# Altium schematic symbol library Connecteurs_Wurth.SchLib: 33 symbols
Pins are listed as number, name and electrical type; pins without a type are passive.

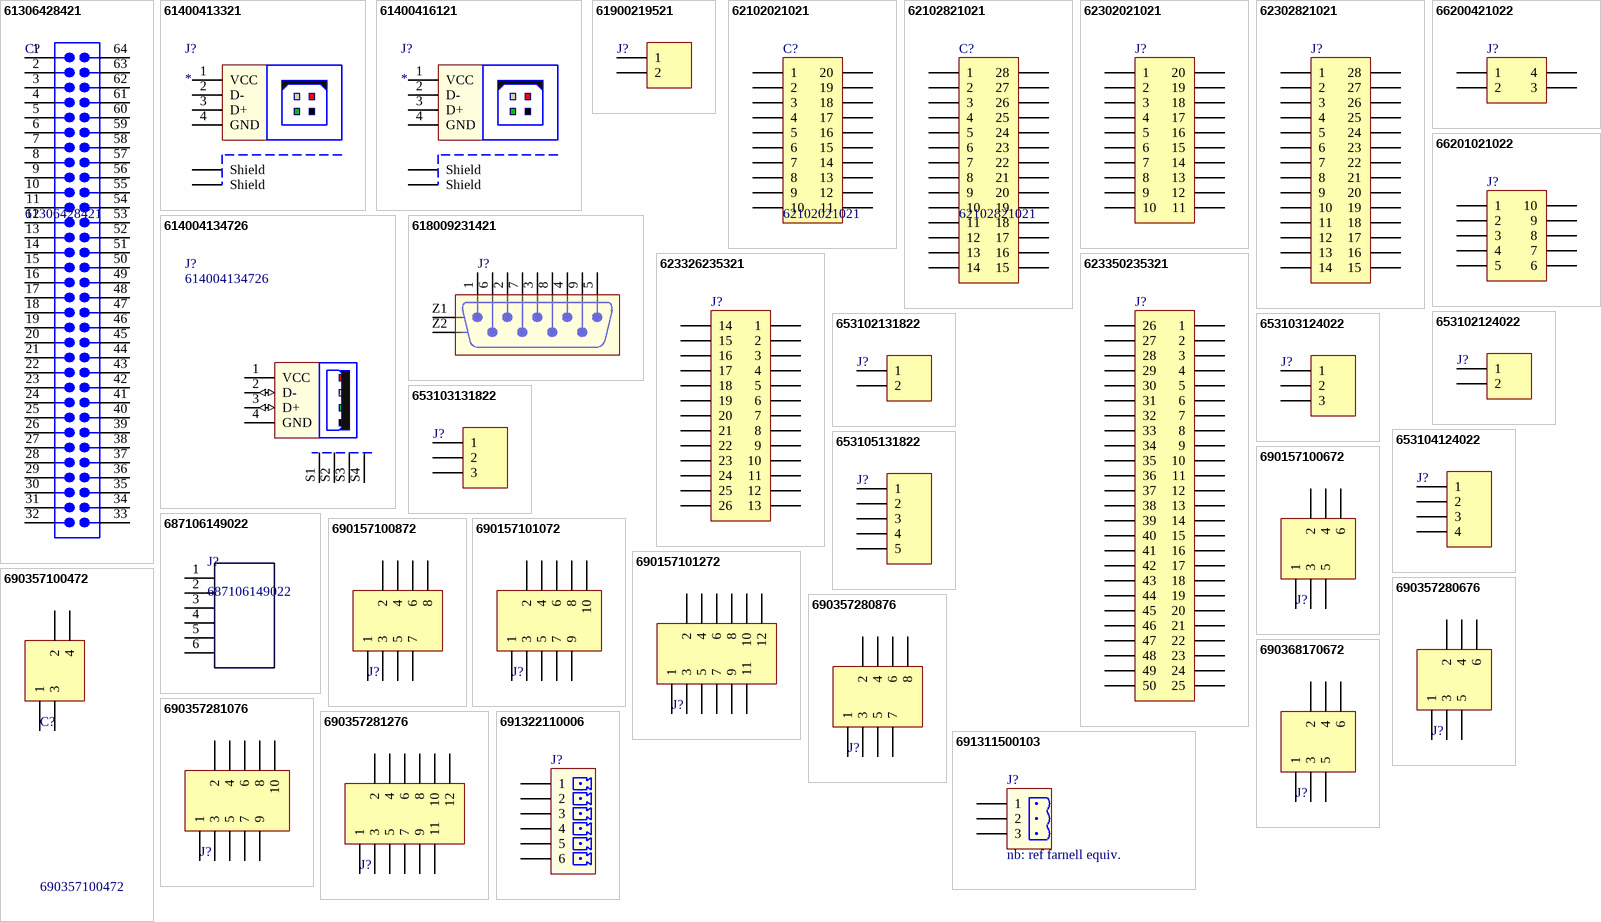
[diagram p0: symbols 61306428421 to 691322110006]

## 61306428421
designator C?
WR-PHD 64p 2.54mm Dual Board Stacker H=15.24mm; Manufacturer: Wurth Electronics Inc.; Value: 64; Manufacturer Part Number: 61306428421; ComponentLink1Description: Datasheet; ComponentLink1URL: http://katalog.we-online.de/em/datasheet/6130xx2xx21.pdf
footprint 61306428421 (64 pins, dual row, gold plating)
pins: 1, 2, 3, 4, 5, 6, 7, 8, 9, 10, 11, 12, 13, 14, 15, 16, 17, 18, 19, 20, 21, 22, 23, 24, 25, 26, 27, 28, 29, 30, 31, 32, 33, 34, 35, 36, 37, 38, 39, 40, 41, 42, 43, 44, 45, 46, 47, 48, 49, 50, 51, 52, 53, 54, 55, 56, 57, 58, 59, 60, 61, 62, 63, 64

## 61400413321
designator J?
WR-COM Vertical USB Type B; Manufacturer Part Number: 61400413321; Manufacturer: Wurth Electronics Inc.; Value: 4; ComponentLink1URL: http://katalog.we-online.de/em/datasheet/61400413321.pdf; Supplier 1: Farnell; Supplier Part Number 1: 1841165; ComponentLink1Description: Datasheet
footprint 61400413321 (F Str 04p Btype vertical)
pins: 1 VCC, 2 D-, 3 D+, 4 GND, S1 Shield, S2 Shield

## 61400416121
designator J?
WR-COM Horizontal USB Type B; Manufacturer Part Number: 61400416121; Manufacturer: Wurth Electronics Inc.; Value: 4; ComponentLink1URL: http://katalog.we-online.de/em/datasheet/61400416121.pdf; Supplier 1: Farnell; Supplier Part Number 1: 1642035; ComponentLink1Description: Datasheet
footprint 61400416121
pins: 1 VCC, 2 D-, 3 D+, 4 GND, S1 Shield, S2 Shield

## 61900219521
designator J?  (value not drawn)
WERI 2p horiz. Wire to board 2,54mm; Manufacturer: Wurth Electronics Inc.; Value: 2; Manufacturer Part Number: 61900219521; ComponentLink1Description: Datasheet; ComponentLink1URL: http://katalog.we-online.de/em/datasheet/6190xx19521.pdf
footprint 61900219521 (M RA 2p 1 row left)
pins: 1, 2

## 62102021021
designator C?
WR-PHD 20p 1.27 mm Dual SMT Pin Header; Manufacturer: Wurth Electronics Inc.; Value: 20; Manufacturer Part Number: 62102021021; ComponentLink1Description: Datasheet; ComponentLink1URL: http://katalog.we-online.de/em/datasheet/6210xx21021.pdf
footprint 62102021021 (20 pins, dual row, straight, gold plating)
pins: 1, 2, 3, 4, 5, 6, 7, 8, 9, 10, 11, 12, 13, 14, 15, 16, 17, 18, 19, 20

## 62102821021
designator C?
WR-PHD 28p 1.27 mm Dual SMT Pin Header; Manufacturer: Wurth Electronics Inc.; Value: 28; Manufacturer Part Number: 62102821021; ComponentLink1Description: Datasheet; ComponentLink1URL: http://katalog.we-online.de/em/datasheet/6210xx21021.pdf
footprint 62102821021 (28 pins, dual row, straight, gold plating)
pins: 1, 2, 3, 4, 5, 6, 7, 8, 9, 10, 11, 12, 13, 14, 15, 16, 17, 18, 19, 20, 21, 22, 23, 24, 25, 26, 27, 28

## 62302021021
designator J?  (value not drawn)
WR-PHD 20p 1.27 mm Dual SMT Socket Header H=4.50mm; Manufacturer: Wurth Electronics Inc.; Value: 20; ComponentLink1Description: Datasheet; ComponentLink1URL: http://katalog.we-online.de/em/datasheet/6230xx21021.pdf; Manufacturer Part Number: 62302021021
footprint 62302021021 (20 pins, dual row, straight, gold plating)
pins: 1, 2, 3, 4, 5, 6, 7, 8, 9, 10, 11, 12, 13, 14, 15, 16, 17, 18, 19, 20

## 62302821021
designator J?  (value not drawn)
WR-PHD 28p 1.27 mm Dual SMT Socket Header H=4.50mm; Manufacturer: Wurth Electronics Inc.; Value: 28; ComponentLink1Description: Datasheet; ComponentLink1URL: http://katalog.we-online.de/em/datasheet/6230xx21021.pdf; Manufacturer Part Number: 62302821021
footprint 62302821021 (28 pins, dual row, straight, gold plating)
pins: 1, 2, 3, 4, 5, 6, 7, 8, 9, 10, 11, 12, 13, 14, 15, 16, 17, 18, 19, 20, 21, 22, 23, 24, 25, 26, 27, 28

## 66200421022
designator J?  (value not drawn)
WR-MPC3 4p 3.00 mm Male Dual Row Angled Header with Plastic Pegs; Manufacturer: Wurth Electronics Inc.; Value: 4; ComponentLink1Description: Datasheet; ComponentLink1URL: http://katalog.we-online.de/em/datasheet/6620xx21022.pdf; Manufacturer Part Number: 66200421022
footprint 66200421022 (Dual row Right angle header With plastic peg 04p)
pins: 1, 2, 3, 4

## 66201021022
designator J?  (value not drawn)
WR-MPC3 10p 3.00 mm Male Dual Row Angled Header with Plastic Pegs; Manufacturer: Wurth Electronics Inc.; Value: 10; ComponentLink1Description: Datasheet; ComponentLink1URL: http://katalog.we-online.de/em/datasheet/6620xx21022.pdf; Manufacturer Part Number: 66201021022; Supplier 1: farnell; Supplier Part Number 1: 1641825
footprint 66201021022 (Dual row Right angle header With plastic peg 10p)
pins: 1, 2, 3, 4, 5, 6, 7, 8, 9, 10

## 614004134726
designator J?
WR-COM USB 2.0 Up Right Type A; Manufacturer: Wurth Electronics Inc.; Value: 4; Supplier 1: Farnell; Supplier Part Number 1: 1841167; Manufacturer Part Number: 614004134726; ComponentLink1Description: Datasheet; ComponentLink1URL: https://katalog.we-online.de/em/datasheet/614004134726.pdf
footprint 614004134726 (USB 2.0 Type A Up Right)
pins: 1 VCC (power), 2 D- (io), 3 D+ (io), 4 GND (power), S1 PAD, S2 PAD, S3 PAD, S4 PAD

## 618009231421
designator J?  (value not drawn)
WR-DSUB9 Male Angled PCB Connector with Hex Screw, 10.30 mm; Manufacturer: Wurth Electronics Inc.; Value: 9; Manufacturer Part Number: 618009231421; ComponentLink1Description: Datasheet; ComponentLink1URL: http://katalog.we-online.de/em/datasheet/6180xx231421.pdf; Supplier 1: Farnell; Supplier Part Number 1: 1841198
footprint 618009231421 (9 pins, right angled, 10.3mm, with hex screw)
pins: 1, 2, 3, 4, 5, 6, 7, 8, 9, Z1 GND, Z2 GND

## 623326235321
designator J?  (value not drawn)
WR-PHD 26p 1.27 mm Dual SMT Socket Header H=2.10mm; Manufacturer: Wurth Electronics Inc.; Value: 26; ComponentLink1Description: Datasheet; ComponentLink1URL: http://katalog.we-online.de/em/datasheet/6233xx235321.pdf; Manufacturer Part Number: 623326235321
footprint 623326235321 (26 pins, dual row, straight, gold plating)
pins: 1, 2, 3, 4, 5, 6, 7, 8, 9, 10, 11, 12, 13, 14, 15, 16, 17, 18, 19, 20, 21, 22, 23, 24, 25, 26

## 623350235321
designator J?  (value not drawn)
WR-PHD 50p 1.27 mm Dual SMT Socket Header H=2.10mm; Manufacturer: Wurth Electronics Inc.; Value: 50; Manufacturer Part Number: 623350235321; ComponentLink1Description: Datasheet; ComponentLink1URL: http://katalog.we-online.de/em/datasheet/6233xx235321.pdf
footprint 623350235321 (50 pins, dual row, straight, gold plating)
pins: 1, 2, 3, 4, 5, 6, 7, 8, 9, 10, 11, 12, 13, 14, 15, 16, 17, 18, 19, 20, 21, 22, 23, 24, 25, 26, 27, 28, 29, 30, 31, 32, 33, 34, 35, 36, 37, 38, 39, 40, 41, 42, 43, 44, 45, 46, 47, 48, 49, 50

## 653102124022
designator J?  (value not drawn)
WR-WTB 2p vert. 1.25mm; Manufacturer: Wurth Electronics Inc.; Value: 2; ComponentLink1Description: Datasheet; ComponentLink1URL: http://katalog.we-online.de/em/datasheet/6531xx124022.pdf; Manufacturer Part Number: 653102124022; Supplier 1: farnell; Supplier Part Number 1: 1841412
footprint 653102124022 (SMT Male Vertical Shrouded Header - 02p 1 row - T & R packaging)
pins: 1, 2

## 653102131822
designator J?  (value not drawn)
WR-WTB 2 horiz. 1.25mm; Manufacturer: Wurth Electronics Inc.; Value: 2; ComponentLink1Description: Datasheet; ComponentLink1URL: http://katalog.we-online.de/em/datasheet/6531xx131822.pdf; Manufacturer Part Number: 653102131822; Supplier 1: farnell; Supplier Part Number 1: 1841413
footprint 653102131822 (SMT Male Horizontal Shrouded Header - 02p 1 row - T & R packaging)
pins: 1, 2

## 653103124022
designator J?  (value not drawn)
WR-WTB 3p vert. 1.25mm; Manufacturer: Wurth Electronics Inc.; Value: 3; ComponentLink1Description: Datasheet; ComponentLink1URL: http://katalog.we-online.de/em/datasheet/6531xx124022.pdf; Manufacturer Part Number: 653103124022; Supplier 1: farnell; Supplier Part Number 1: 1841414
footprint 653103124022 (SMT Male Vertical Shrouded Header - 02p 1 row - T & R packaging)
pins: 1, 2, 3

## 653103131822
designator J?  (value not drawn)
WR-WTB 3p horiz. 1.25mm; Manufacturer: Wurth Electronics Inc.; Value: 3; ComponentLink1Description: Datasheet; ComponentLink1URL: http://katalog.we-online.de/em/datasheet/6531xx131822.pdf; Manufacturer Part Number: 653103131822; Supplier 1: farnell; Supplier Part Number 1: 1841416
footprint 653103131822 (SMT Male Horizontal Shrouded Header - 03p 1 row - T & R packaging)
pins: 1, 2, 3

## 653104124022
designator J?  (value not drawn)
WR-WTB 4p vert. 1.25mm; Manufacturer: Wurth Electronics Inc.; Value: 4; ComponentLink1Description: Datasheet; ComponentLink1URL: http://katalog.we-online.de/em/datasheet/6531xx124022.pdf; Manufacturer Part Number: 653104124022; Supplier 1: farnell; Supplier Part Number 1: 1841417
footprint 653104124022 (SMT Male Vertical Shrouded Header - 02p 1 row - T & R packaging)
pins: 1, 2, 3, 4

## 653105131822
designator J?  (value not drawn)
WR-WTB 5p horiz. 1.25mm; Manufacturer: Wurth Electronics Inc.; Value: 5; ComponentLink1Description: Datasheet; ComponentLink1URL: http://katalog.we-online.de/em/datasheet/6531xx131822.pdf; Manufacturer Part Number: 653105131822; Supplier 1: rs; Supplier Part Number 1: 828-1226
footprint 653105131822 (SMT Male Horizontal Shrouded Header - 05p 1 row - T & R packaging)
pins: 1, 2, 3, 4, 5

## 687106149022
designator J?
FPC 6p 0.5MM HORZ BOTTOM SMD; Manufacturer: Wurth Electronics Inc.; Value: 6; Supplier 1: Farnell; Supplier Part Number 1: 2470697; Manufacturer Part Number: 687106149022; ComponentLink1Description: Datasheet; ComponentLink1URL: http://katalog.we-online.de/em/datasheet/6871xx149022.pdf
footprint 687106149022 (WR-FPC 0.50mm SMT Horiz. Bot. Contact Hinge type WR-FPC 0.50mm 6pins Hinge type SMT Horizontal Bottom Contact)
pins: 1  , 2  , 3  , 4  , 5  , 6  

## 690157100672
designator J?  (value not drawn)
WR-MM 6p Male Connector TH without Latch & with Polarization; Manufacturer: Wurth Electronics Inc.; Value: 6; Manufacturer Part Number: 690157100672; ComponentLink1Description: Datasheet; ComponentLink1URL: http://katalog.we-online.de/em/datasheet/69035710xx72.pdf
footprint 690157100672 (6 pins, straight)
pins: 1, 2, 3, 4, 5, 6

## 690157100872
designator J?  (value not drawn)
WR-MM 8p Male Connector TH without Latch & with Polarization; Manufacturer: Wurth Electronics Inc.; Value: 8; Manufacturer Part Number: 690157100872; ComponentLink1Description: Datasheet; ComponentLink1URL: http://katalog.we-online.de/em/datasheet/69035710xx72.pdf
footprint 690157100872 (8 pins, straight)
pins: 1, 2, 3, 4, 5, 6, 7, 8

## 690157101072
designator J?  (value not drawn)
WR-MM 10p Male Connector TH without Latch & with Polarization; Manufacturer: Wurth Electronics Inc.; Value: 10; Manufacturer Part Number: 690157101072; ComponentLink1Description: Datasheet; ComponentLink1URL: http://katalog.we-online.de/em/datasheet/69035710xx72.pdf
footprint 690157101072 (10 pins, straight)
pins: 1, 2, 3, 4, 5, 6, 7, 8, 9, 10

## 690157101272
designator J?  (value not drawn)
WR-MM 12p Male Connector TH without Latch & with Polarization; Manufacturer: Wurth Electronics Inc.; Value: 12; Manufacturer Part Number: 690157101272; ComponentLink1Description: Datasheet; ComponentLink1URL: http://katalog.we-online.de/em/datasheet/69035710xx72.pdf
footprint 690157101272 (12 pins, straight)
pins: 1, 2, 3, 4, 5, 6, 7, 8, 9, 10, 11, 12

## 690357100472
designator C?
WR-MM 4p Male Connector TH without Latch & with Polarization; Manufacturer: Wurth Electronics Inc.; Value: 4; ComponentLink1Description: Datasheet; ComponentLink1URL: http://katalog.we-online.de/em/datasheet/69035710xx72.pdf; Manufacturer Part Number: 690357100472
footprint 690357100472 (4 pins, straight)
pins: 1, 2, 3, 4

## 690357280676
designator J?  (value not drawn)
WR-MM 6p Male SMT Connector; Manufacturer: Wurth Electronics Inc.; Value: 6; ComponentLink1Description: Datasheet; ComponentLink1URL: http://katalog.we-online.de/em/datasheet/69035728xx76.pdf; Manufacturer Part Number: 690357280676; Supplier 1: rs; Supplier Part Number 1: 771-8165
footprint 690357280676 (6 pins, SMT, straight)
pins: 1, 2, 3, 4, 5, 6

## 690357280876
designator J?  (value not drawn)
WR-MM 8p Male SMT Connector; Manufacturer: Wurth Electronics Inc.; Value: 8; ComponentLink1Description: Datasheet; ComponentLink1URL: http://katalog.we-online.de/em/datasheet/69035728xx76.pdf; Manufacturer Part Number: 690357280876; Supplier 1: rs; Supplier Part Number 1: 1641870
footprint 690357280876 (8 pins, SMT, straight)
pins: 1, 2, 3, 4, 5, 6, 7, 8

## 690357281076
designator J?  (value not drawn)
WR-MM 10p Male SMT Connector; Manufacturer: Wurth Electronics Inc.; Value: 10; ComponentLink1Description: Datasheet; ComponentLink1URL: http://katalog.we-online.de/em/datasheet/69035728xx76.pdf; Manufacturer Part Number: 690357281076; Supplier 1: rs; Supplier Part Number 1: 1641871
footprint 690357281076 (10 pins, SMT, straight)
pins: 1, 2, 3, 4, 5, 6, 7, 8, 9, 10

## 690357281276
designator J?  (value not drawn)
WR-MM 12p Male SMT Connector; Manufacturer: Wurth Electronics Inc.; Value: 12; ComponentLink1Description: Datasheet; ComponentLink1URL: http://katalog.we-online.de/em/datasheet/69035728xx76.pdf; Manufacturer Part Number: 690357281276; Supplier 1: Farnell; Supplier Part Number 1: 2827990
footprint 690357281276 (12 pins, SMT, straight)
pins: 1, 2, 3, 4, 5, 6, 7, 8, 9, 10, 11, 12

## 690368170672
designator J?  (value not drawn)
WR-MM 6p Female Angled TH Connector with Polarization; Manufacturer: Wurth Electronics Inc.; Value: 6; Manufacturer Part Number: 690368170672; ComponentLink1Description: Datasheet; ComponentLink1URL: http://katalog.we-online.de/em/datasheet/69035710xx72.pdf; Supplier 1: Farnell; Supplier Part Number 1: 1641862
footprint 690368170672 (without Latch, 6 pins, right angled)
pins: 1, 2, 3, 4, 5, 6

## 691311500103
designator J?  (value not drawn)
WR-TBL 3p Series 311 - 5.08 mm Closed Vertical PCB Header; Manufacturer: Wurth Electronics Inc.; Value: 3; Manufacturer Part Number: 691311500103; ComponentLink1Description: Datasheet; ComponentLink1URL: https://katalog.we-online.de/em/datasheet/6913115001xx.pdf; Supplier 1: Farnell; Supplier Part Number 1: 2059783
footprint 691311500103 (5,08mm - PCB Headers - Vertical - Closed ends -03p)
pins: 1, 2, 3
text: nb: ref farnell equiv.

## 691322110006
designator J?  (value not drawn)
WR-TBL 6p Series 3221 - 3.50 mm Horizontal PCB Header; Manufacturer: Wurth Electronics Inc.; Value: 6; Supplier 1: Farnell; Manufacturer Part Number: 691322110006; Supplier Part Number 1: 1841319; ComponentLink1Description: Datasheet; ComponentLink1URL: http://katalog.we-online.de/em/datasheet/6913221100xx.pdf
footprint 691322110006 (Horizontal PCB Header, pitch 3.5mm, 06p)
pins: 1, 2, 3, 4, 5, 6